# EAGLE library part SKY13405-490LF (library psas_c3_team05)
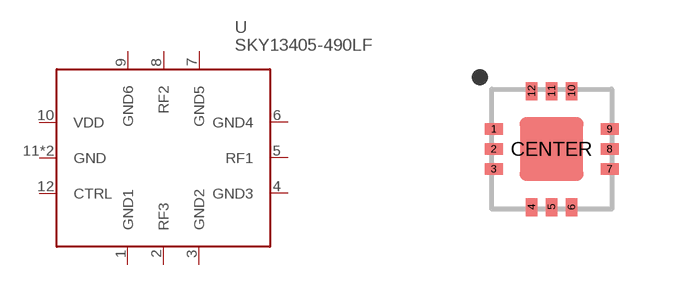
[diagram p11: symbol with the pads of SKY13405-490LF; footprint SKY13405-490LF]

Designator prefix -

## SKY13405-490LF  [SKY13405-490LF]
1  GND1  pwr
2  RF3
3  GND2  pwr
4  GND3  pwr
5  RF1
6  GND4  pwr
7  GND5  pwr
8  RF2
9  GND6  pwr
10  VDD  pwr
11  GND  pwr
12  CTRL  in
CENTER  GND  pwr

## Footprint SKY13405-490LF (pad centres in mm)
smd 0.45 x 0.28: 1 -0.95,0; 2 -0.95,-0.5; 3 -0.95,-1; 7 1.95,-1; 8 1.95,-0.5; 9 1.95,0
smd 0.28 x 0.45: 4 0,-1.95; 5 0.5,-1.95; 6 1,-1.95; 10 1,0.95; 11 0.5,0.95; 12 0,0.95
smd 1.6 x 1.6: CENTER 0.5,-0.5